# Altium schematic symbol library BRT_Components.SchLib: 270 symbols (part 2 of 3)
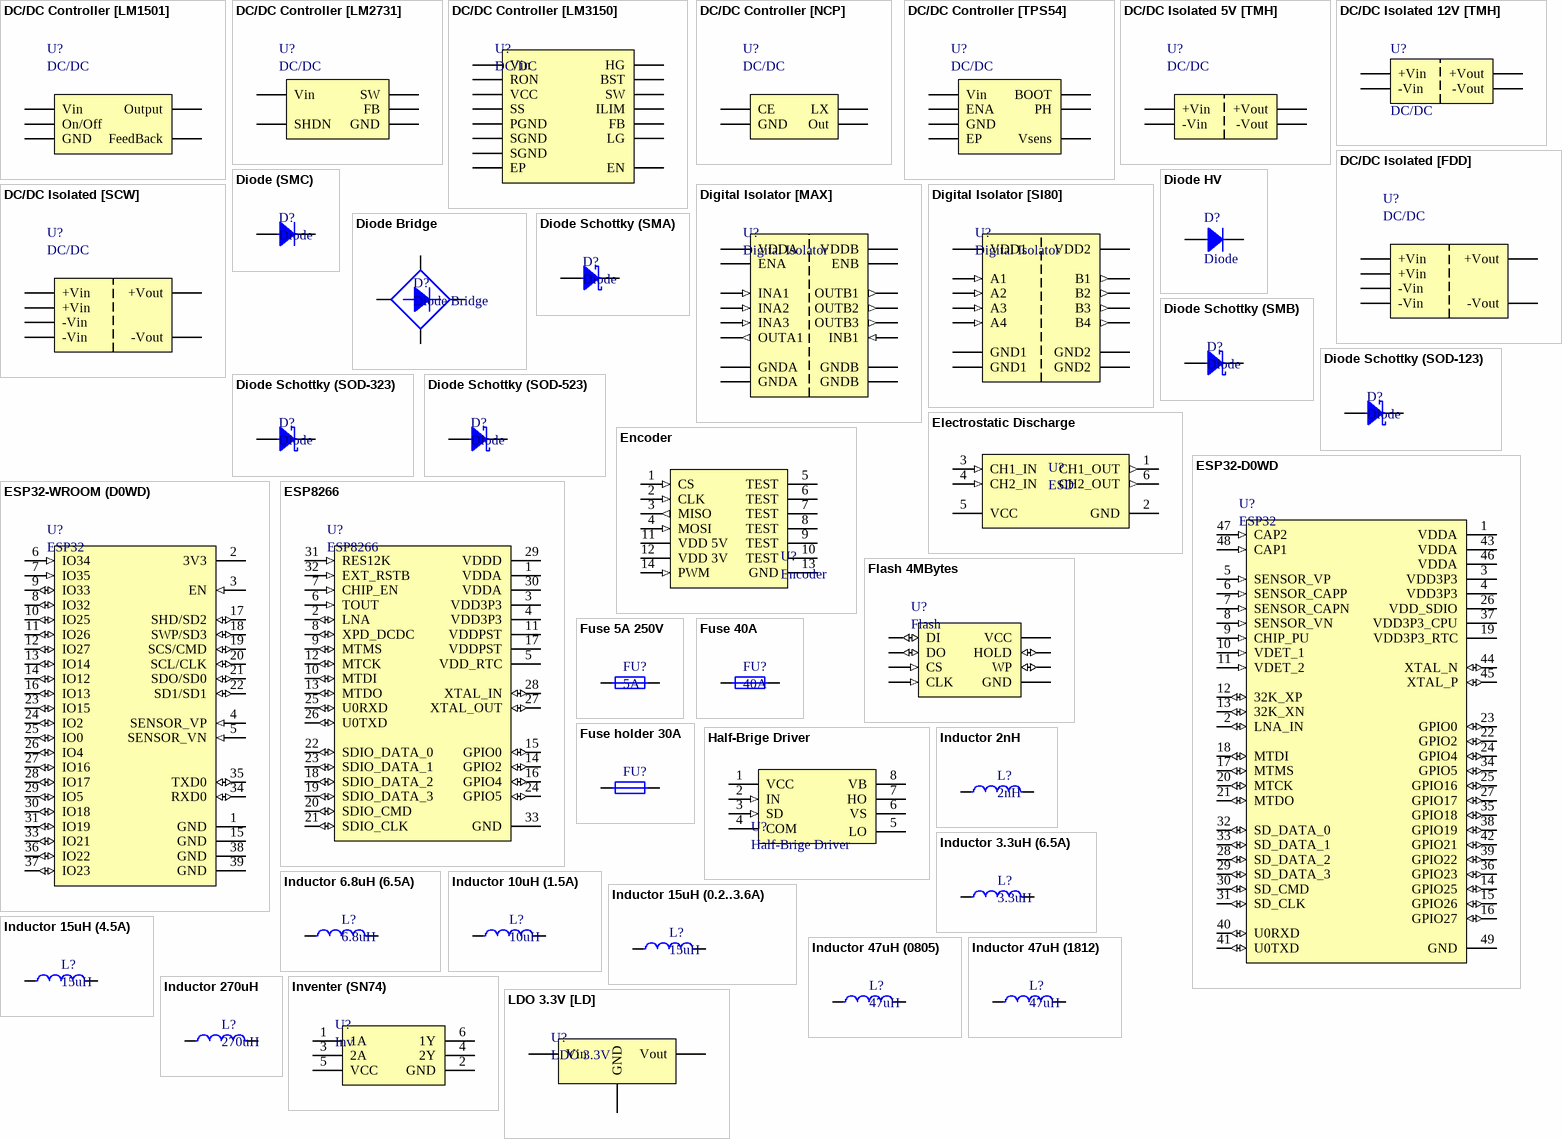
[diagram p7: symbols DC/DC Controller [LM1501] to LDO 3.3V [LD]]

## Diode HV
designator D?, comment Diode
BY12 - Highg voltage diode; ComponentLink1Description: ChipDip; ComponentLink1URL: https://www.chipdip.ru/product/by12; ComponentLink2Description: Datasheet; ComponentLink2URL: https://static.chipdip.ru/lib/508/DOC001508556.pdf
footprint BY12
pins: 1, 2

## Diode Schottky (SMA)
designator D?, comment Diode
Diode Schottky 3A 40V; Part Number: B340A-E3/61T; Manufacturer: Vishay; Type: Diode; ComponentLink1Description: DataSheet; ComponentLink1URL: https://static.chipdip.ru/lib/652/DOC001652710.pdf; ComponentLink2Description: Chip&Dip; ComponentLink2URL: https://www.chipdip.ru/product/b340a-e3-61t-2
footprint SMA
pins: 1, 2

## Diode Schottky (SMB)
designator D?, comment Diode
Diode Schottky 5A 40V; Part Number: SK54; Manufacturer: Diotec Semiconductor; Type: Diode; ComponentLink1Description: DataSheet; ComponentLink1URL: https://static.chipdip.ru/lib/092/DOC001092363.pdf; ComponentLink2Description: Chip&Dip; ComponentLink2URL: https://www.chipdip.ru/product/sk54
footprint SMB
pins: 1, 2

## Diode Schottky (SOD-123)
designator D?, comment Diode
0.5 A, Low Forward Voltage less than 385 mV, 400 mW Power Dissipation Package; Part Number: MBR0520L; Manufacturer: ON Semiconductor; Type: Diode; ComponentLink1Description: DataSheet; ComponentLink1URL: http://www.farnell.com/datasheets/1875336.pdf; ComponentLink2Description: Chip&Dip; ComponentLink2URL: https://www.chipdip.ru/product/mbr0520l
footprint sod-123
pins: 1, 2

## Diode Schottky (SOD-323)
designator D?, comment Diode
Diode Schottky 0.2A 30V; Part Number: BAT54HT1G; Manufacturer: ON Semiconductor; Type: Diode; ComponentLink1Description: DataSheet; ComponentLink1URL: http://www.farnell.com/datasheets/2251626.pdf; ComponentLink2Description: Chip&Dip; ComponentLink2URL: https://www.chipdip.ru/product/bat54ht1g-ons
footprint sod-323
pins: 1, 2

## Diode Schottky (SOD-523)
designator D?, comment Diode
Schottky Barrier Diodes, 200mA to 500mA; Part Number: 1PS79SB30,115; Manufacturer: Nexperia; Type: Diode; ComponentLink1Description: DataSheet; ComponentLink1URL: https://static.chipdip.ru/lib/583/DOC001583065.pdf; ComponentLink2Description: Chip&Dip; ComponentLink2URL: https://www.chipdip.ru/product/1ps79sb30.115
footprint SOD-523
pins: 1, 2

## Electrostatic Discharge
designator U?, comment ESD
2-Channel Ultra-Low Clamp Voltage ESD [TPD2S017DBVR]; Manufacturer: Texas Instruments; Part Number: TPD2S017DBVR; Type: IC; ComponentLink1Description: DataSheet; ComponentLink1URL: https://www.ti.com/lit/ds/symlink/tpd2s017.pdf?ts=1605859658409&ref_url=https%253A%252F%252Fwww.ti.com%252Fproduct%252FTPD2S017%253Futm_source%253Dgoogle%2526utm_medium%253Dcpc%2526utm_campaign%253Dapp-null-null-GPN_EN-cpc-pf-google-eu%2526utm_content%253DTPD2S017%2526ds_k%253DTPD2S017%2526DCM%253Dyes%2526gclid%253DCjwKCAiA7939BRBMEiwA-hX5J1NFHP2TP8cbp9bs_j1u611XDsMKD_GIosLsJ5HnTqvzEnKmAgZ7qBoCjZ0QAvD_BwE%2526gclsrc%253Daw.ds; ComponentLink2Description: Chip&Dip; ComponentLink2URL: https://www.chipdip.ru/product0/8002872230
footprint SOT236
pins: 1 CH1_OUT (out), 2 GND (power), 3 CH1_IN (in), 4 CH2_IN (in), 5 VCC (power), 6 CH2_OUT (out)

## Encoder
designator U?
Magnetic Rotary Encoder; Part Number: AS5048A; Manufacturer: ams; ComponentLink1Description: DataSheet; ComponentLink1URL: https://www.mouser.com/ds/2/588/AS5048_DS000298_3-00-522551.pdf; Type: IC
footprint TSSOP-14
pins: 1 CS (in), 2 CLK (in), 3 MISO (out), 4 MOSI (in), 5 TEST (power), 6 TEST (power), 7 TEST (power), 8 TEST (power), 9 TEST (power), 10 TEST (power), 11 VDD 5V (power), 12 VDD 3V (power), 13 GND (power), 14 PWM (in)

## ESP32-D0WD
designator U?, comment ESP32
ESP32 is a single 2.4 GHz Wi-Fi-and-Bluetooth combo chip designed with the TSMC ultra-low-power 40 nmtechnology. It is designed to achieve the best power and RF performance, showing robustness, versatility andreliability in a wide variety of applications and power scenarios.; Part Number: ESP32-D0WD; Manufacturer: Espressif Systems; ComponentLink1Description: Chip&Dip; ComponentLink1URL: https://www.chipdip.ru/product1/8001784100; ComponentLink2Description: DataSheet; ComponentLink2URL: https://ru.mouser.com/datasheet/2/891/esp32_datasheet_en-1223853.pdf; Type: IC
footprint QFN-48 5x5
pins: 1 VDDA (power) "Analog power supply (2.3 V – 3.6 V)", 2 LNA_IN (io) "RF input and output", 3 VDD3P3 (power) "Analog power supply (2.3 V – 3.6 V)", 4 VDD3P3 (power) "Analog power supply (2.3 V – 3.6 V)", 5 SENSOR_VP (in) "GPIO36, ADC1_CH0,  RTC_GPIO0", 6 SENSOR_CAPP (in) "GPIO37, ADC1_CH1,  RTC_GPIO1", 7 SENSOR_CAPN (in) "GPIO38, ADC1_CH2,  RTC_GPIO2", 8 SENSOR_VN (in) "GPIO39, ADC1_CH3,  RTC_GPIO3", 9 CHIP_PU (in) "High: On; enables the chipLow: Off; the chip powers offNote: Do not leave the CHIP_PU pin floating.", 10 VDET_1 (in) "GPIO34, ADC1_CH6,  RTC_GPIO4", 11 VDET_2 (in) "GPIO35, ADC1_CH7,  RTC_GPIO5", 12 32K_XP (io) "GPIO32, ADC1_CH4,  RTC_GPIO9,  TOUCH9,  32K_XP (32.768 kHz crystal oscillator input)", 13 32K_XN (io) "GPIO33, ADC1_CH5,  RTC_GPIO8,  TOUCH8,  32K_XN (32.768 kHz crystal oscillator output)", 14 GPIO25 (io) "GPIO25, ADC2_CH8,  RTC_GPIO6,  DAC_1,   EMAC_RXD0", 15 GPIO26 (io) "GPIO26, ADC2_CH9,  RTC_GPIO7,  DAC_2,   EMAC_RXD1", 16 GPIO27 (io) "GPIO27, ADC2_CH7,  RTC_GPIO17, TOUCH7,  EMAC_RX_DV", 17 MTMS (io) "GPIO14, ADC2_CH6,  RTC_GPIO16, TOUCH6,  EMAC_TXD2,  HSPICLK,  HS2_CLK,  SD_CLK,  MTMS", 18 MTDI (io) "GPIO12, ADC2_CH5,  RTC_GPIO15, TOUCH5,  EMAC_TXD3,  HSPIQ,    HS2_DATA2, SD_DATA2, MTDI", 19 VDD3P3_RTC (power) "Input power supply for RTC IO (2.3 V – 3.6 V)", 20 MTCK (io) "GPIO13, ADC2_CH4,  RTC_GPIO14, TOUCH4,  EMAC_RX_ER, HSPID,    HS2_DATA3, SD_DATA3, MTCK", 21 MTDO (io) "GPIO15, ADC2_CH3,  RTC_GPIO13, TOUCH3,  EMAC_RXD3,  HSPICS0,  HS2_CMD,  SD_CMD,  MTDO", 22 GPIO2 (io) "GPIO2,  ADC2_CH2,  RTC_GPIO12, TOUCH2,HSPIWP,  HS2_DATA0, SD_DATA0", 23 GPIO0 (io) "GPIO0,  ADC2_CH1,  RTC_GPIO11, TOUCH1,  EMAC_TX_CLK,CLK_OUT1", 24 GPIO4 (io) "GPIO4,  ADC2_CH0,  RTC_GPIO10, TOUCH0,  EMAC_TX_ER, HSPIHD,  HS2_DATA1, SD_DATA1", 25 GPIO16 (io) "GPIO16, HS1_DATA4,  U2RXD,EMAC_CLK_OUT", 26 VDD_SDIO (power) "Output power supply: 1.8 V or the same voltage as VDD3P3_RTC", 27 GPIO17 (io) "GPIO17, HS1_DATA5,  U2TXD,EMAC_CLK_OUT_180", 28 SD_DATA_2 (io) "GPIO9,  HS1_DATA2,  U1RXD,SD_DATA2, SPIHD", 29 SD_DATA_3 (io) "GPIO10, HS1_DATA3,  U1TXD,SD_DATA3, SPIWP", 30 SD_CMD (io) "GPIO11, HS1_CMD,   U1RTS,SD_CMD,  SPICS0", 31 SD_CLK (io) "GPIO6,  HS1_CLK,    U1CTS,SD_CLK,  SPICLK", 32 SD_DATA_0 (io) "GPIO7,  HS1_DATA0,  U2RTS,SD_DATA0, SPIQ", 33 SD_DATA_1 (io) "GPIO8,  HS1_DATA1,  U2CTS,SD_DATA1, SPID", 34 GPIO5 (io) "GPIO5,  HS1_DATA6,  VSPICS0,EMAC_RX_CLK", 35 GPIO18 (io) "GPIO18, HS1_DATA7,  VSPICLK", 36 GPIO23 (io) "GPIO23, HS1_STROBE, VSPID", 37 VDD3P3_CPU (power) "Input power supply for CPU IO (1.8 V – 3.6 V)", 38 GPIO19 (io) "GPIO19, U0CTS,VSPIQ,EMAC_TXD0", 39 GPIO22 (io) "GPIO22, U0RTS,VSPIWP,EMAC_TXD1", 40 U0RXD (io) "GPIO3,  U0RXD,CLK_OUT2", 41 U0TXD (io) "GPIO1,  U0TXD,CLK_OUT3,   EMAC_RXD2", 42 GPIO21 (io) "GPIO21,VSPIHD,EMAC_TX_EN", 43 VDDA (power) "Analog power supply (2.3 V – 3.6 V)", 44 XTAL_N (io) "External crystal output", 45 XTAL_P (io) "External crystal input", 46 VDDA (power) "Analog power supply (2.3 V – 3.6 V)", 47 CAP2 (in) "Connects to a 3 nF capacitor and 20 kΩresistor in parallel to CAP1", 48 CAP1 (in) "Connects to a 10 nF series capacitor to ground", 49 GND (power) "Ground"

## ESP32-WROOM (D0WD)
designator U?, comment ESP32
ESP32-WROOM-32 is a powerful, generic Wi-Fi+BT+BLE MCU module that targets a wide variety of applications,ranging from low-power sensor networks to the most demanding tasks, such as voice encoding, music streamingand MP3 decoding; Part Number: ESP32-WROOM-32U (16MB); Manufacturer: Espressif Systems; ComponentLink1Description: Mouser; ComponentLink1URL: https://ru.mouser.com/ProductDetail/Espressif-Systems/ESP32-WROOM-32U-16MB?qs=sGAEpiMZZMu3sxpa5v1qrsMD9%252BwKyL2mrwTVktUnYUY%3D; ComponentLink2Description: DataSheet; ComponentLink2URL: https://ru.mouser.com/datasheet/2/891/esp32-wroom-32d_esp32-wroom-32u_datasheet_en-1365844.pdf; Type: IC
footprint ESP32-WROOM-32U
pins: 1 GND (power), 2 3V3 (power), 3 EN (in) "Module-enable signal. Active high", 4 SENSOR_VP (in) "GPIO36, ADC1_CH0, RTC_GPIO0", 5 SENSOR_VN (in) "GPIO39, ADC1_CH3, RTC_GPIO3", 6 IO34 (in) "GPIO34, ADC1_CH6, RTC_GPIO4", 7 IO35 (in) "GPIO35, ADC1_CH7, RTC_GPIO5", 8 IO32 (io) "GPIO32, XTAL_32K_P (32.768 kHz crystal oscillator input), ADC1_CH4,TOUCH9, RTC_GPIO9", 9 IO33 (io) "GPIO33, XTAL_32K_N (32.768 kHz crystal oscillator output), ADC1_CH5,TOUCH8, RTC_GPIO8", 10 IO25 (io) "GPIO25, DAC_1, ADC2_CH8, RTC_GPIO6, EMAC_RXD0", 11 IO26 (io) "GPIO26, DAC_2, ADC2_CH9, RTC_GPIO7, EMAC_RXD1", 12 IO27 (io) "GPIO27, ADC2_CH7, TOUCH7, RTC_GPIO17, EMAC_RX_DV", 13 IO14 (io) "GPIO14, ADC2_CH6, TOUCH6, RTC_GPIO16, MTMS, HSPICLK, HS2_CLK,SD_CLK, EMAC_TXD2", 14 IO12 (io) "GPIO12, ADC2_CH5, TOUCH5, RTC_GPIO15, MTDI, HSPIQ, HS2_DATA2,SD_DATA2, EMAC_TXD3", 15 GND (power), 16 IO13 (io) "GPIO13, ADC2_CH4, TOUCH4, RTC_GPIO14, MTCK, HSPID, HS2_DATA3,SD_DATA3, EMAC_RX_ER", 17 SHD/SD2 (io) "GPIO9, SD_DATA2, SPIHD, HS1_DATA2, U1RXD", 18 SWP/SD3 (io) "GPIO10, SD_DATA3, SPIWP, HS1_DATA3, U1TXD", 19 SCS/CMD (io) "GPIO11, SD_CMD, SPICS0, HS1_CMD, U1RTS", 20 SCL/CLK (io) "GPIO6, SD_CLK, SPICLK, HS1_CLK, U1CTS", 21 SDO/SD0 (io) "GPIO7, SD_DATA0, SPIQ, HS1_DATA0, U2RTS", 22 SD1/SD1 (io) "GPIO8, SD_DATA1, SPID, HS1_DATA1, U2CTS", 23 IO15 (io) "GPIO15, ADC2_CH3, TOUCH3, MTDO, HSPICS0, RTC_GPIO13, HS2_CMD,SD_CMD, EMAC_RXD3", 24 IO2 (io) "GPIO2, ADC2_CH2, TOUCH2, RTC_GPIO12, HSPIWP, HS2_DATA0,SD_DATA0", 25 IO0 (io) "GPIO0, ADC2_CH1, TOUCH1, RTC_GPIO11, CLK_OUT1, EMAC_TX_CLK", 26 IO4 (io) "GPIO4, ADC2_CH0, TOUCH0, RTC_GPIO10, HSPIHD, HS2_DATA1,SD_DATA1, EMAC_TX_ER", 27 IO16 (io) "GPIO16, HS1_DATA4, U2RXD, EMAC_CLK_OUT", 28 IO17 (io) "GPIO17, HS1_DATA5, U2TXD, EMAC_CLK_OUT_180", 29 IO5 (io) "GPIO5, VSPICS0, HS1_DATA6, EMAC_RX_CLK", 30 IO18 (io) "GPIO18, VSPICLK, HS1_DATA7", 31 IO19 (io) "GPIO19, VSPIQ, U0CTS, EMAC_TXD0", 33 IO21 (io) "GPIO21, VSPIHD, EMAC_TX_EN", 34 RXD0 (io) "GPIO3, U0RXD, CLK_OUT2", 35 TXD0 (io) "GPIO1, U0TXD, CLK_OUT3, EMAC_RXD2", 36 IO22 (io) "GPIO22, VSPIWP, U0RTS, EMAC_TXD1", 37 IO23 (io) "GPIO23, VSPID, HS1_STROBE", 38 GND (power), 39 GND (power)

## ESP8266
designator U?
ESP8266EX delivers highly integrated Wi-Fi SoC solution to meet users’ continuous demands for efficient power usage, compact design and reliable performance in the Internet of Things industry; Manufacturer: Espressif Systems; ComponentLink1Description: Mouser; ComponentLink1URL: https://eu.mouser.com/ProductDetail/Espressif-Systems/ESP8266EX?qs=sGAEpiMZZMve4%2FbfQkoj%252BGif8WCprhV4ngk1mHM9Xjs%3D; ComponentLink2Description: DataSheet; ComponentLink2URL: https://eu.mouser.com/datasheet/2/891/0a-esp8266ex_datasheet_en-1223899.pdf; Part Number: ESP8266EX; Type: IC
footprint QFN-32
pins: 1 VDDA (power) "Analog Power 2.5 V ~ 3.6 V", 2 LNA (io) "RF antenna interface Chip output impedance = 39 + j6 Ω. It is suggested to retain the π-type matching network to match the antenna", 3 VDD3P3 (power) "Amplifier Power 2.5 V ~ 3.6 V", 4 VDD3P3 (power) "Amplifier Power 2.5 V ~ 3.6 V", 5 VDD_RTC (power) "NC (1.1 V)", 6 TOUT (in) "ADC pin. It can be used to test the power-supply voltage of VDD3P3 (Pin3 and Pin4) and the input power voltage of TOUT (Pin 6", 7 CHIP_EN (in) "Chip Enable High: On, chip works properly Low: Off, small current consumed", 8 XPD_DCDC (io) "Deep-sleep wakeup (need to be connected to EXT_RSTB); GPIO16", 9 MTMS (io) "GPIO 14; HSPI_CLK", 10 MTDI (io) "GPIO 12; HSPI_MISO", 11 VDDPST (power) "Digital/IO Power Supply (1.8 V ~ 3.6 V)", 12 MTCK (io) "GPIO 13; HSPI_MOSI; UART0_CTS", 13 MTDO (io) "GPIO 15; HSPI_CS; UART0_RTS", 14 GPIO2 (io) "UART TX during flash programming; GPIO2", 15 GPIO0 (io) "GPIO0; SPI_CS2", 16 GPIO4 (io), 17 VDDPST (power) "Digital/IO Power Supply (1.8 V ~ 3.6 V)", 18 SDIO_DATA_2 (io) "Connect to SD_D2 (Series R: 20 Ω); SPIHD; HSPIHD; GPIO9", 19 SDIO_DATA_3 (io) "Connect to SD_D3 (Series R: 200 Ω); SPIWP; HSPIWP; GPIO10", 20 SDIO_CMD (io) "Connect to SD_CMD (Series R: 200 Ω); SPI_CS0; GPIO11", 21 SDIO_CLK (io) "Connect to SD_CLK (Series R: 200 Ω); SPI_CLK; GPIO6", 22 SDIO_DATA_0 (io) "Connect to SD_D0 (Series R: 200 Ω); SPI_MISO; GPIO7", 23 SDIO_DATA_1 (io) "Connect to SD_D1 (Series R: 200 Ω); SPI_MOSI; GPIO8", 24 GPIO5 (io), 25 U0RXD (io) "UART Rx during flash programming; GPIO3", 26 U0TXD (io) "UART TX during flash programming; GPIO1; SPI_CS1", 27 XTAL_OUT (io) "Connect to crystal oscillator output, can be used to provide BT clock input", 28 XTAL_IN (io) "Connect to crystal oscillator input", 29 VDDD (power) "Analog Power 2.5 V ~ 3.6 V", 30 VDDA (power) "Analog Power 2.5 V ~ 3.6 V", 31 RES12K (in) "Serial connection with a 12 kΩ resistor and connect to the ground", 32 EXT_RSTB (in) "External reset signal (Low voltage level: active)", 33 GND (power)

## Flash 4MBytes
designator U?, comment Flash
Serial  Flash  memory providesa  storage  solution  for  systems  with  limited space,  pins  and  power.; Part Number: W25Q32BVSSIG; Manufacturer: Winbond Electronics; ComponentLink1Description: DataSheet; ComponentLink1URL: https://static.chipdip.ru/lib/081/DOC001081512.pdf; ComponentLink2Description: Chip&Dip; ComponentLink2URL: https://www.chipdip.ru/product/w25q32bvssig; Type: IC
footprint SOIC-8
pins: 1 CS (in) "Chip Select Input", 2 DO (io) "Data Output", 3 WP (io) "Write Protect Input", 4 GND (power), 5 DI (io) "Data Input", 6 CLK (in) "Serial Clock Input", 7 HOLD (io) "Hold Input", 8 VCC (power)

## Fuse 5A 250V
designator FU?, comment 5А
Part Number: 179020.5; Manufacturer: Siba; Type: Fuse; ComponentLink1Description: Chip&Dip; ComponentLink1URL: https://www.chipdip.ru/product/siba-179020-5
footprint Fuse Glass
pins: 1, 2

## Fuse 40A
designator FU?, comment 40A
Part Number: MF-MSMF200-2; Manufacturer: Bourns; Type: Fuse; ComponentLink1Description: Chip&Dip; ComponentLink1URL: https://www.chipdip.ru/product0/8001783899
footprint 1812 Fuse
pins: 1, 2

## Fuse holder 30A
designator FU?
Automotive fuse holder, 30A; Part number: 3557-2; Manufacturer: Keystone Electronics Corp; Type: Fuse; ComponentLink1Description: Datasheet; ComponentLink1URL: https://datasheet.octopart.com/3557-2-Keystone-datasheet-14434305.pdf; ComponentLink2Description: Mouser; ComponentLink2URL: https://ru.mouser.com/ProductDetail/Keystone-Electronics/3557-2?qs=cxy41lVAGV%2FfbyASjpXK1g%3D%3D
footprint FuseHolder (3557-2) (Automotive fuse holder)
pins: 1, 2

## Half-Brige Driver
designator U?
Driver 600V 0.6A 2-OUT Hi/Lo Side Half Brdg Inv/Non-Inv 8-Pin SOIC Tube; Part Number: IRS2104SPBF; Manufacturer: International Rectifier; ComponentLink1Description: DataSheet; ComponentLink1URL: https://static.chipdip.ru/lib/033/DOC001033366.pdf; ComponentLink2Description: Chip&Dip; ComponentLink2URL: https://www.chipdip.ru/product/irs2104s; Type: IC
footprint SOIC-8
pins: 1 VCC (power), 2 IN (in) "Logic Signal", 3 SD (in) "Shot-Down", 4 COM (power), 5 LO, 6 VS, 7 HO, 8 VB

## Inductor 2nH
designator L?, comment 2nH
0603, 5%; Part Number: LQG18HN8N2J00D; Manufacturer: Murata Manufacturing; Type: Inductor; ComponentLink1Description: DataSheet; ComponentLink1URL: https://static6.arrow.com/aropdfconversion/c1583adeb79d7b8ba7badcc32120e4a48424949a/product.pdf; ComponentLink2Description: Chip&Dip; ComponentLink2URL: https://www.chipdip.ru/product/lqg18hn8n2j
footprint 0603 Resistor
pins: 1, 2

## Inductor 3.3uH (6.5A)
designator L?, comment 3.3uH
3.3uH, 5.4x5.1x2, 6.5A; Part Number: SPM5020T-3R3M-LR; Manufacturer: TDK; Type: Inductor; ComponentLink1Description: DataSheet; ComponentLink1URL: https://static.chipdip.ru/lib/015/DOC004015227.pdf; ComponentLink2Description: Chip&Dip; ComponentLink2URL: https://www.chipdip.ru/product0/9000523845
footprint Inductor 5.4x5.1
pins: 1, 2

## Inductor 6.8uH (6.5A)
designator L?, comment 6.8uH
6.8 uH, 4.2 А, 20%, 5.4х5.1х2mm; Part Number: SPM5020T-6R8M-LR; Manufacturer: TDK; Type: Inductor; ComponentLink1Description: DataSheet; ComponentLink1URL: https://static.chipdip.ru/lib/015/DOC004015227.pdf; ComponentLink2Description: Chip&Dip; ComponentLink2URL: https://www.chipdip.ru/product0/9000523846
footprint Inductor 5.4x5.1
pins: 1, 2

## Inductor 10uH (1.5A)
designator L?, comment 10uH
10uH, D=5.8mm, 1450mA; Part Number: SDR0604-100ML; Manufacturer: Bourns; Type: Inductor; ComponentLink1Description: DataSheet; ComponentLink1URL: http://www.farnell.com/datasheets/1635216.pdf; ComponentLink2Description: Chip&Dip; ComponentLink2URL: https://www.chipdip.ru/product/sdr0604-100ml
footprint SDR
pins: 1, 2

## Inductor 15uH (0.2..3.6A)
designator L?, comment 15uH
15uH, 1.53A, 7X7; Part Number: B82472G6153M000; Manufacturer: Epcos; Type: Inductor; ComponentLink1Description: DataSheet; ComponentLink1URL: https://static.chipdip.ru/lib/972/DOC003972643.pdf; ComponentLink2Description: Chip&Dip; ComponentLink2URL: https://www.chipdip.ru/product/b82472g6153m000-15
footprint Inductor 7x7
pins: 1, 2

## Inductor 15uH (4.5A)
designator L?, comment 15uH
15uH, 12.8x12.8, 4.5A; Part Number: B82477G4153M; Manufacturer: Epcos; Type: Inductor; ComponentLink1Description: DataSheet; ComponentLink1URL: https://static.chipdip.ru/lib/009/DOC001009882.pdf; ComponentLink2Description: Chip&Dip; ComponentLink2URL: https://www.chipdip.ru/product/b82477g4153m
footprint Inductor 12.8 x 12.8 x 8.0
pins: 1, 2

## Inductor 47uH (0805)
designator L?, comment 47uH
20%; Part Number: MLZ2012M470WT000; Manufacturer: TDK; Type: Inductor; ComponentLink1Description: DataSheet; ComponentLink1URL: https://static.chipdip.ru/lib/492/DOC001492193.pdf; ComponentLink2Description: Chip&Dip; ComponentLink2URL: https://www.chipdip.ru/product/mlz2012m470wt000-47
footprint 0805 Resistor
pins: 1, 2

## Inductor 47uH (1812)
designator L?, comment 47uH
Part Number: CM453232-470KL; Manufacturer: Bourns; Type: Inductor; ComponentLink1Description: DataSheet; ComponentLink1URL: http://www.farnell.com/datasheets/2277343.pdf; ComponentLink2Description: Chip&Dip; ComponentLink2URL: https://www.chipdip.ru/product/cm453232-470kl
footprint 1812 Inductor
pins: 1, 2

## Inductor 270uH
designator L?, comment 270uH
270 uH, 1210, 5%; Part Number: NLV32T-271J-EF; Manufacturer: TDK; Type: Inductor; ComponentLink1Description: DataSheet; ComponentLink1URL: https://static.chipdip.ru/lib/492/DOC001492199.pdf; ComponentLink2Description: Chip&Dip; ComponentLink2URL: https://www.chipdip.ru/product/nlv32t-271j-ef-270
footprint 1210 Inductor
pins: 1, 2

## Inventer (SN74)
designator U?, comment Inv
Dual inverter, 1.65-5.5V; Manufacturer: Texas Instruments; Part Number: SN74LVC2G04DBVR; ComponentLink1Description: Chip&Dip; ComponentLink1URL: https://www.chipdip.ru/product/sn74lvc2g04dbvr-2; ComponentLink2Description: DataSheet; ComponentLink2URL: https://static.chipdip.ru/lib/021/DOC001021810.pdf; Type: IC
footprint SOT236 (Footprint not found)
pins: 1 1A, 2 GND, 3 2А, 4 2Y, 5 VCC, 6 1Y

## LDO 3.3V [LD]
designator U?, comment LDO 3.3V
LDO Regulator Pos 3.3V 1.3A 4-Pin(3+Tab) SOT-223 T/R; Part Number: LD1117S33CTR; Manufacturer: STMicroelectronics; ComponentLink1Description: DataSheet; ComponentLink1URL: https://static.chipdip.ru/lib/292/DOC000292513.pdf; ComponentLink2Description: Chip&Dip; ComponentLink2URL: https://www.chipdip.ru/product/ld1117s33ctr-2
footprint SOT-223
pins: 1 GND (power), 2 Vout (power), 3 Vin (power)

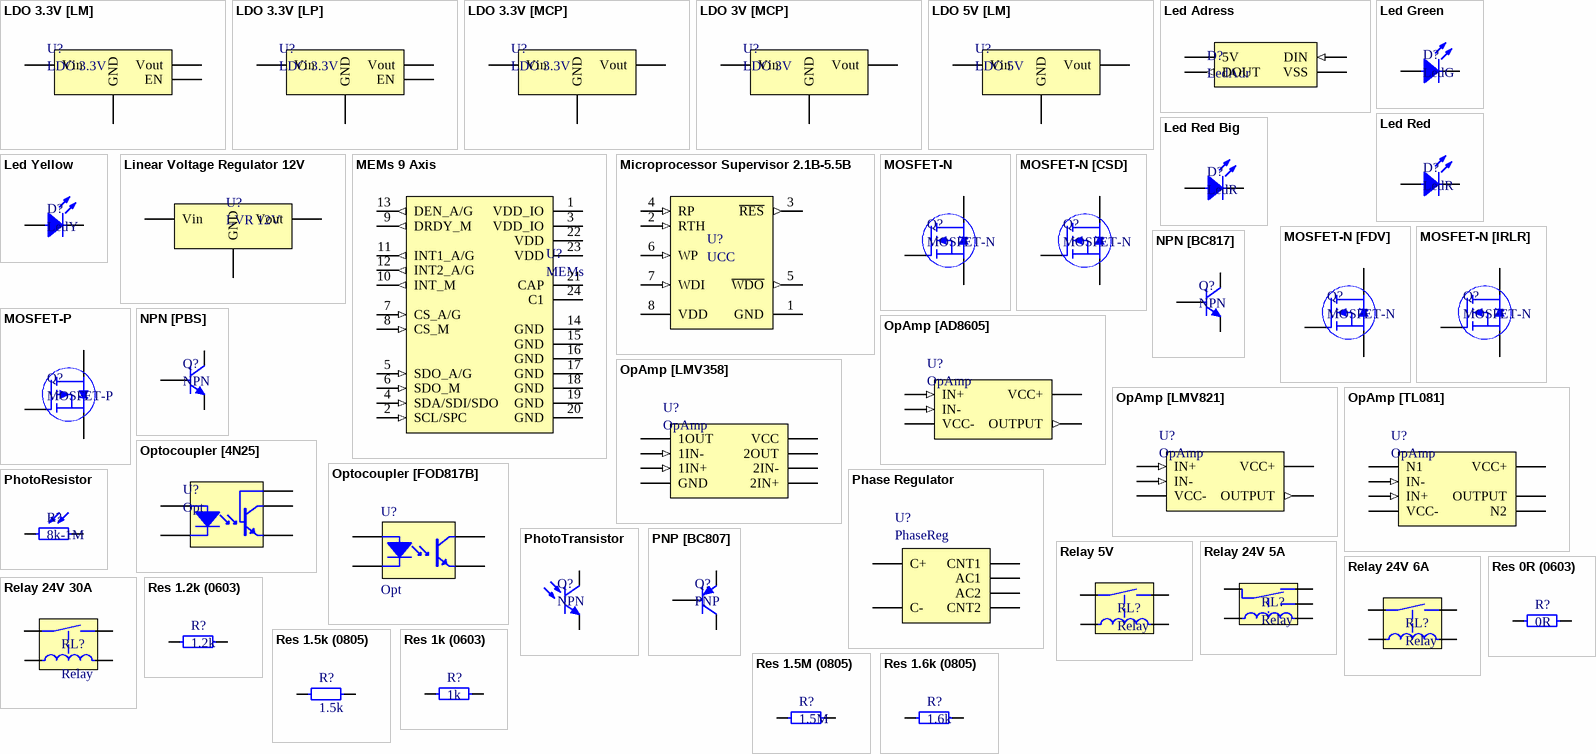
[diagram p4: symbols LDO 3.3V [LM] to Res 1k (0603)]

## LDO 3.3V [LM]
designator U?, comment LDO 3.3V
low-dropout linear regulator. There are devices designed specifically for battery-operated systems. Ground current is very small (50uA-Typ), that significantly extending battery life. Low power consumption and high accuracy is achieved through CMOS and programmable fuse technologies. Output voltage: 1.5V to 6.0V.; Part Number: LM8805SF5-3.3; Manufacturer: TAEJIN TECHNOLOGY; ComponentLink1Description: DataSheet; ComponentLink1URL: https://static.chipdip.ru/lib/138/DOC004138842.pdf; ComponentLink2Description: Chip&Dip; ComponentLink2URL: https://www.chipdip.ru/product/lm8805sf5-3.3
footprint SOT-23-5
pins: 1 Vin (power), 2 GND (power), 3 EN (power), 5 Vout (power)

## LDO 3.3V [LP]
designator U?, comment LDO 3.3V
Low-noise LDO that can supply up  to 250mA output curren. This device is  available with fixed output voltages from 1.2 V to 4.5 V in 25-mV steps; Part Number: LP5907MFX-3.3/NOPB; Manufacturer: Texas Instruments; ComponentLink1Description: DataSheet; ComponentLink1URL: https://static.chipdip.ru/lib/551/DOC001551778.pdf; ComponentLink2Description: Chip&Dip; ComponentLink2URL: https://www.chipdip.ru/product/lp5907mfx-3.3-nopb; ComponentLink3Description: Elitan; ComponentLink3URL: https://www.elitan.ru/price/item9999140
footprint SOT-23-5
pins: 1 Vin (power), 2 GND (power), 3 EN (power), 5 Vout (power)

## LDO 3.3V [MCP]
designator U?, comment LDO 3.3V
A family of CMOS low dropout (LDO)voltage  regulators  that  can  deliver  up  to  250 mA  ofcurrent  while  consuming  only  1.6 μA  of  quiescentcurrent (typical). The input operating range is specifiedfrom 2.3V to 6.0V; Part Number: MCP1700T-3302E/TT; Manufacturer: Microchip; ComponentLink1Description: DataSheet; ComponentLink1URL: https://static.chipdip.ru/lib/276/DOC000276804.pdf; ComponentLink2Description: Chip&Dip; ComponentLink2URL: https://www.chipdip.ru/product/mcp1700t-3302e-tt; ComponentLink3Description: Elitan; ComponentLink3URL: https://www.elitan.ru/price/item595361
footprint SOT-23
pins: 1 GND (power), 2 Vout (power), 3 Vin (power)

## LDO 3V [MCP]
designator U?, comment LDO 3V
MCP1702 Low Dropout Voltage Regulator. The input operating range is specifiedfrom 2.7V to 13.2V; Part Number: MCP1702T-3002E/CB; Manufacturer: Microchip; ComponentLink1Description: DataSheet; ComponentLink1URL: https://static.chipdip.ru/lib/986/DOC003986671.pdf; ComponentLink2Description: Chip&Dip; ComponentLink2URL: https://www.chipdip.ru/product/mcp1702t-3002e-cb-microchip
footprint SOT-23
pins: 1 GND (power), 2 Vout (power), 3 Vin (power)

## LDO 5V [LM]
designator U?, comment LDO 5V
A low dropout Linear Regulator with a dropout of 5V at 800mA of load current; Part Number: LM1117IMPX-5.0/NOPB; Manufacturer: Texas Instruments; ComponentLink1Description: DataSheet; ComponentLink1URL: https://static.chipdip.ru/lib/276/DOC000276680.pdf; ComponentLink2Description: Chip&Dip; ComponentLink2URL: https://www.chipdip.ru/product/lm1117impx-5.0-nopb
footprint SOT-223
pins: 1 GND (power), 2 Vout (power), 3 Vin (power)

## Led Adress
designator D?, comment LedAdr
Manufacturer: Shenzhen Shining Opto-Electronic; Part Number: WS2812B; Type: Diode; ComponentLink1Description: DataSheet; ComponentLink1URL: https://static.chipdip.ru/lib/554/DOC001554925.pdf; ComponentLink2Description: Chip&Dip; ComponentLink2URL: https://www.chipdip.ru/product/ws2812b
footprint WS2812B
pins: 1 5V (power), 2 DOUT (out), 3 VSS (power), 4 DIN (in)

## Led Green
designator D?, comment LedG
Led Green SMD 1608, 120°, 525nM; Part Number: TO-1608BC-PG; Manufacturer: Taiwan Oasis Technology; Type: Diode; ComponentLink1Description: Chip&Dip; ComponentLink1URL: https://www.chipdip.ru/product/to-1608bc-pg
footprint 0805 LED
pins: 1, 2

## Led Red
designator D?, comment LedR
SMD 1608, 112mcd, 120°, 630nM (Ultra Bright Red); Part Number: TO-1608BC-MRE; Manufacturer: Taiwan Oasis Technology; Type: Diode; ComponentLink1Description: Chip&Dip; ComponentLink1URL: https://www.chipdip.ru/product/to-1608bc-mre
footprint 0805 LED
pins: 1, 2

## Led Red Big
designator D?, comment LedR
Led Red, SMD 3228, 120°, 630nM (Ultra Bright Red); Part Number: TO-3228BC-MRG; Manufacturer: Taiwan Oasis Technology; Type: Diode; ComponentLink1Description: Chip&Dip; ComponentLink1URL: https://www.chipdip.ru/product/to-3228bc-mrg
footprint LED
pins: 1, 2

## Led Yellow
designator D?, comment LedY
SMD 1608, 247mcd, 120°, 592nM (High Bright Yellow); Part Number: TO-1608BC-MYF; Manufacturer: Taiwan Oasis Technology; Type: Diode; ComponentLink1Description: Chip&Dip; ComponentLink1URL: https://www.chipdip.ru/product/to-1608bc-myf
footprint 0805 LED
pins: 1, 2

## Linear Voltage Regulator 12V
designator U?, comment LVR 12V
These regulators can provide local on-card regulation, eliminating the distribution problems associated with single point regulation.; Part Number: L7812CD2T-TR; Manufacturer: STMicroelectronics; ComponentLink1Description: Chip&Dip; ComponentLink1URL: https://www.chipdip.ru/product/l7812cd2t-tr; ComponentLink2Description: DataSheet; ComponentLink2URL: https://static.chipdip.ru/lib/804/DOC000804929.pdf
footprint D2-PAK (TO-262)
pins: 1 Vin (power), 2 GND (power), 3 Vout (power)

## MEMs 9 Axis
designator U?, comment MEMs
System-in-package featuring a 3D digital linear acceleration sensor, a 3D digital angular rate sensor, and a 3D digital magnetic sensor; Manufacturer: STMicroelectronics; Part Number: LSM9DS1TR; ComponentLink1Description: DataSheet; ComponentLink1URL: https://static.chipdip.ru/lib/427/DOC004427868.pdf; ComponentLink2Description: Chip&Dip; ComponentLink2URL: https://www.chipdip.ru/product/lsm9ds1tr; Type: IC
footprint LGA 3.5x3x1 mm 24-lead
pins: 1 VDD_IO (power) "Power supply for I/O pins", 2 SCL/SPC (in) "I2C serial clock (SCL) / SPI serial port clock (SPC)", 3 VDD_IO (power) "Power supply for I/O pins", 4 SDA/SDI/SDO (in) "I2C serial data (SDA); SPI serial data input (SDI); 3-wire interface serial data output (SDO)", 5 SDO_A/G (in) "SPI serial data output (SDO) for the accelerometer and gyroscopeI2C least significant bit of the device address (SA0) for the accelerometer and gyroscope", 6 SDO_M (in) "SPI serial data output (SDO) for the magnetometerI2C least significant bit of the device address (SA0) for the magnetometer", 7 CS_A/G (in) "SPI enable I2C/SPI mode selection for the accelerometer and gyroscope (1: SPI idle mode / I2C communication enabled; 0: SPI communication mode / I2C disabled)", 8 CS_M (in) "SPI enable I2C/SPI mode selection for the magnetometer (1: SPI idle mode / I2C communication enabled; 0: SPI communication mode / I2C disabled)", 9 DRDY_M (out) "Magnetic sensor data ready", 10 INT_M (out) "Magnetic sensor interrupt", 11 INT1_A/G (out) "Accelerometer and gyroscope interrupt 1", 12 INT2_A/G (out) "Accelerometer and gyroscope interrupt 2", 13 DEN_A/G (out) "Accelerometer and gyroscope data enable", 14 GND (power), 15 GND (power), 16 GND (power), 17 GND (power), 18 GND (power), 19 GND (power), 20 GND (power), 21 CAP (oc) "Connected to GND with ceramic capacitor", 22 VDD (power) "Power supply", 23 VDD (power) "Power supply", 24 C1 (oc) "Capacitor connection (C1 = 100 nF)"

## Microprocessor Supervisor 2.1В-5.5В
designator U?, comment UCC
UCC2946PW; Manufacturer: Texas Instruments; ComponentLink1Description: Chip&Dip; ComponentLink1URL: https://www.chipdip.ru/product/ucc2946pw; ComponentLink2Description: DataSheet; ComponentLink2URL: https://www.ti.com/lit/ds/slus247f/slus247f.pdf?ts=1602462267468&ref_url=https%253A%252F%252Fwww.google.com%252F; Part Number: UCC2946PW; Type: IC
footprint TSSOP-8
pins: 1 GND (power), 2 RTH (in), 3 ~{RES} (out), 4 RP (in), 5 ~{WDO} (out), 6 WP (in), 7 WDI (in), 8 VDD (power)

## MOSFET-N
designator Q?
Drain-Source max voltage: 50 Vdc; gate-sourse max voltage: +-20 Vdc. Gate-Source threshhold: 1.5 Vdc; Part Number: BSS138LT1G; Manufacturer: ON Semiconductor; Type: Transistor; ComponentLink1Description: DataSheet; ComponentLink1URL: http://www.farnell.com/datasheets/2353875.pdf; ComponentLink2Description: Chip&Dip; ComponentLink2URL: https://www.chipdip.ru/product/bss138-onsemi
footprint SOT-23
pins: 1 Gate, 2 Drain, 3 Source

## MOSFET-N [CSD]
designator Q?, comment MOSFET-N
NexFET™ N-channel Power MOSFET designed to minimize losses in power conversion applications; Part Number: CSD19534Q5A; Manufacturer: Texas Instruments; Type: Transistor; ComponentLink1Description: DataSheet; ComponentLink1URL: http://www.ti.com/lit/ds/symlink/csd19534q5a.pdf; ComponentLink2Description: Chip&Dip; ComponentLink2URL: https://www.chipdip.ru/product/csd19534q5at
footprint VSON
pins: 1 Gate, 2 Drain, 3 Source

## MOSFET-N [FDV]
designator Q?, comment MOSFET-N
These N-Channel enhancement mode field effect transistors areproduced  using  Fairchild's  proprietary,  high  cell  density,  DMOStechnology.; Part Number: FDV303N; Manufacturer: Fairchild Semiconductor; Type: Transistor; ComponentLink1Description: DataSheet; ComponentLink1URL: https://static.chipdip.ru/lib/009/DOC001009115.pdf; ComponentLink2Description: Chip&Dip; ComponentLink2URL: https://www.chipdip.ru/product/fdv303n
footprint SOT-23
pins: 1 Gate, 2 Source, 3 Drain

## MOSFET-N [IRLR]
designator Q?, comment MOSFET-N
Trans MOSFET N-CH Si 55V 89A 3-Pin(2+Tab) DPAK Tube; Part Number: IRLR3705ZTRPBF; Manufacturer: International Rectifier; Type: Transistor; ComponentLink1Description: DataSheet; ComponentLink1URL: https://static.chipdip.ru/lib/292/DOC000292789.pdf; ComponentLink2Description: Chip&Dip; ComponentLink2URL: https://www.chipdip.ru/product/irlr3705zpbf
footprint D-Pak (TO-252AA)
pins: 1 Gate, 2 Drain, 3 Source

## MOSFET-P
designator Q?
12VDS TrenchFET® P-channel enhancement-mode Power MOSFET suitable for load switch and battery switch applications; Part Number: SI2333DDS-T1-GE3; Manufacturer: Vishay; Type: Transistor; ComponentLink1Description: Chip&Dip; ComponentLink1URL: https://www.chipdip.ru/product/si2333dds-t1-ge3; ComponentLink2Description: DataSheet; ComponentLink2URL: http://www.farnell.com/datasheets/2188938.pdf
footprint SOT-23
pins: 1 Gate, 2 Source, 3 Drain

## NPN [BC817]
designator Q?, comment NPN
NPN general-purpose transistors; Part Number: BC817-40,215; Manufacturer: Nexperia; Type: Transistor; ComponentLink1Description: DataSheet; ComponentLink1URL: https://static.chipdip.ru/lib/156/DOC000156781.pdf; ComponentLink2Description: Chip&Dip; ComponentLink2URL: https://www.chipdip.ru/product/bc817-40
footprint SOT-23
pins: 1, 2, 3

## NPN [PBS]
designator Q?, comment NPN
NPN low VCEsat transistor in a SOT223 plastic package; Part Number: PBSS4540Z,115; Manufacturer: Nexperia; Type: Transistor; ComponentLink1Description: DataSheet; ComponentLink1URL: https://static.chipdip.ru/lib/583/DOC001583057.pdf; ComponentLink2Description: Chip&Dip; ComponentLink2URL: https://www.chipdip.ru/product/pbss4540z.115
footprint SOT-223
pins: 1, 2, 3

## OpAmp [AD8605]
designator U?, comment OpAmp
Rail-to-rail input and output, single-supply amplifier; Part Number: AD8605ARTZ-REEL7; Manufacturer: Analog Devices; ComponentLink1Description: DataSheet; ComponentLink1URL: https://static.chipdip.ru/lib/310/DOC000310082.pdf; ComponentLink2Description: Chip&Dip; ComponentLink2URL: https://www.chipdip.ru/product/ad8605artz; Type: IC
footprint SOT-23-5
pins: 1 OUTPUT (out), 2 VCC- (power), 3 IN+ (in) "Offset Null", 4 IN- (in), 5 VCC+ (power)

## OpAmp [LMV358]
designator U?, comment OpAmp
Low Voltage Operational Amplifiers; Part Number: LMV358IDR; Manufacturer: Texas Instruments; ComponentLink1Description: DataSheet; ComponentLink1URL: https://static.chipdip.ru/lib/321/DOC000321492.pdf; ComponentLink2Description: Chip&Dip; ComponentLink2URL: https://www.chipdip.ru/product/lmv358idr-pbf; Type: IC
footprint SOIC-8
pins: 1 1OUT (oc) "Offset Null", 2 1IN- (in), 3 1IN+ (in), 4 GND (power), 5 2IN+ (oc), 6 2IN- (oc), 7 2OUT (oc), 8 VCC (power)

## OpAmp [LMV821]
designator U?, comment OpAmp
A single low power precision Operational Amplifier intended for use in a wide range of applications; Part Number: LMV821M5/NOPB; Manufacturer: Texas Instruments; ComponentLink1Description: DataSheet; ComponentLink1URL: https://static.chipdip.ru/lib/235/DOC000235297.pdf; ComponentLink2Description: Chip&Dip; ComponentLink2URL: https://www.chipdip.ru/product/lmv821m5; Type: IC
footprint SOT-23-5
pins: 1 IN+ (in) "Offset Null", 2 VCC- (power), 3 IN- (in), 4 OUTPUT (out), 5 VCC+ (power)

## OpAmp [TL081]
designator U?, comment OpAmp
General Purpose J-FET Single Operational Amplifier; Part Number: TL081CDT; Manufacturer: STMicroelectronics; ComponentLink1Description: DataSheet; ComponentLink1URL: https://static.chipdip.ru/lib/205/DOC000205098.pdf; ComponentLink2Description: Chip&Dip; ComponentLink2URL: https://www.chipdip.ru/product/tl081cd; Type: IC
footprint SOIC-8
pins: 1 N1 (oc) "Offset Null", 2 IN- (in), 3 IN+ (in), 4 VCC- (power), 5 N2 (oc), 6 OUTPUT (oc), 7 VCC+ (power)

## Optocoupler [4N25]
designator U?, comment Opt
Part Number: 4N25; Manufacturer: Vishay; ComponentLink1Description: DataSheet; ComponentLink1URL: https://static.chipdip.ru/lib/028/DOC001028582.pdf; ComponentLink2Description: Chip&Dip; ComponentLink2URL: https://www.chipdip.ru/product/4n25-vishay; Type: IC
footprint DIP6
pins: 1 A, 2 C, 4 E, 5 C, 6 B

## Optocoupler [FOD817B]
designator U?, comment Opt
Phototransistor Optocoupler, 4 us Rise, 3 us Fall, 5000 Vrms, -55 to 110 degC, 4-Pin MDIP, RoHS, Tape and Reel; Manufacturer: ON Semiconductor; Part Nomber: FOD817B; ComponentLink1Description: Chip&Dip; ComponentLink1URL: https://www.chipdip.ru/product/fod817b; ComponentLink2Description: DataSheet; ComponentLink2URL: https://static.chipdip.ru/lib/297/DOC000297284.pdf
footprint FAIR-MDIP-4_V (SMD, 4-Leads, Body 6.5x4.6mm, Pitch 2.54mm)
pins: 1 ANODE, 2 CATHODE, 3 EMITTER, 4 COLLECTOR

## Phase Regulator
designator U?, comment PhaseReg
Manufacturer: Russia; Part Number: KR1182PM1; ComponentLink1Description: Chip&Dip; ComponentLink1URL: https://www.chipdip.ru/product/k1182pm1r; ComponentLink2Description: DataSheet; ComponentLink2URL: https://static.chipdip.ru/lib/143/DOC000143428.pdf; Type: IC
footprint DIP16
pins: 3 C+ "Input Supply Voltage", 6 C-, 9 CNT2, 10, 11 AC2 (power), 14, 15 AC1 (power), 16 CNT1

## PhotoResistor
designator R?, comment 8k-1M
[GL5528]; Part Number: GL5528; Manufacturer: China; Type: Resistor; ComponentLink1Description: DataSheet; ComponentLink1URL: https://pi.gate.ac.uk/pages/airpi-files/PD0001.pdf
footprint PhotoResistor
pins: 1, 2

## PhotoTransistor
designator Q?, comment NPN
Part Number: L-7113P3C; Manufacturer: Kingbright; Type: Transistor; ComponentLink1Description: DataSheet; ComponentLink1URL: https://static.chipdip.ru/lib/195/DOC000195179.pdf; ComponentLink2Description: Chip&Dip; ComponentLink2URL: https://www.chipdip.ru/product/l-53p3c
footprint PhotoTransistor
pins: 1, 2

## PNP [BC807]
designator Q?, comment PNP
PNP general-purpose transistors; Part Number: BC807,215; Manufacturer: Nexperia; Type: Transistor; ComponentLink1Description: DataSheet; ComponentLink1URL: https://static.chipdip.ru/lib/078/DOC001078227.pdf; ComponentLink2Description: Chip&Dip; ComponentLink2URL: https://www.chipdip.ru/product/bc807.215
footprint SOT-23
pins: 1, 2, 3

## Relay 5V
designator RL?, comment Relay
High ratings: 12A 125VAC, 10A 277VAC/30VDC, TV-5, 1/4HP 125/250VAC; Manufacturer: Song Chuan Precision; Part Number: 834-1A-B-C 05VDC; ComponentLink1Description: Chip&Dip; ComponentLink1URL: https://www.chipdip.ru/product/834-1a-b-c-05vdc; ComponentLink2Description: DataSheet; ComponentLink2URL: https://static.chipdip.ru/lib/156/DOC000156754.pdf; Type: Relay
footprint Relay 1 Form A
pins: 1, 2, 3, 4

## Relay 24V 5A
designator RL?, comment Relay
Coil voltage: 24V VDC; 5A max; Part number: 1-1393219-0; Manufacturer: TE Connectivity; Type: Relay; ComponentLink1Description: Chip&Dip; ComponentLink1URL: https://www.chipdip.ru/product/tyco-1-1393219-0; ComponentLink2Description: Datasheet; ComponentLink2URL: https://static.chipdip.ru/lib/583/DOC000583317.pdf
footprint Relay(PE014024)
pins: 1, 2, 3, 4, 5

## Relay 24V 6A
designator RL?, comment Relay
Coil voltage: 24V; 6A max; Manufacturer: TE Connectivity; Part Number: RE030024; Type: Relay; ComponentLink1Description: Chip&Dip; ComponentLink1URL: https://www.chipdip.ru/product/tyco-re030024-1393217-8; ComponentLink2Description: Datasheet; ComponentLink2URL: https://static.chipdip.ru/lib/975/DOC000975764.pdf
footprint Relay(RE030024)
pins: 1, 2, 3, 4

## Relay 24V 30A
designator RL?, comment Relay
Coil voltage: 24V; 30A max; Manufacturer: TE Connectivity; Part number: T9GS1L14-24; Type: Relay; ComponentLink1Description: Chip&Dip; ComponentLink1URL: https://www.chipdip.ru/product/1558666-7-t9gs1l14-24; ComponentLink2Description: Datasheet; ComponentLink2URL: https://static.chipdip.ru/lib/009/DOC003009180.pdf
footprint Relay(1558666) (TE relay footprint)
pins: 1, 2, 3, 4

## Res 0R (0603)
designator R?, comment 0R
0.1W 0603 0R, 5%; Part Number: RC0603JR-070RL; Manufacturer: Taiwan; Type: Resistor; ComponentLink1Description: Chip&Dip; ComponentLink1URL: https://www.chipdip.ru/product0/9000070541
footprint 0603 Resistor
pins: 1, 2

## Res 1.2k (0603)
designator R?, comment 1.2k
0.1W 0603 1.2k, 1%; Part Number: RC0603FR-071K2L; Manufacturer: Taiwan; Type: Resistor; ComponentLink1Description: Chip&Dip; ComponentLink1URL: https://www.chipdip.ru/product0/9000079678
footprint 0603 Resistor
pins: 1, 2

## Res 1.5k (0805)
designator R?, comment 1.5k
0.125W 0805 1.5k, 1%; Part Number: RC0805FR-071K5L; Manufacturer: Taiwan; Type: Resistor; ComponentLink1Description: Chip&Dip; ComponentLink1URL: https://www.chipdip.ru/product0/9000079490
footprint 0805 Resistor
pins: 1, 2

## Res 1.5M (0805)
designator R?, comment 1.5M
0.125W 0805 1.5 R, 5%; Part Number: RC0805JR-071M5L; Manufacturer: Taiwan; ComponentLink2Description: Chip&Dip; ComponentLink2URL: https://www.chipdip.ru/product0/780602435; Type: Resistor
footprint 0805 Resistor
pins: 1, 2

## Res 1.6k (0805)
designator R?, comment 1.6k
0.125W 0805 1.6k, 1%; Part Number: RC0805FR-071K6L; Manufacturer: Taiwan; Type: Resistor; ComponentLink1Description: Chip&Dip; ComponentLink1URL: https://www.chipdip.ru/product0/9000079491
footprint 0805 Resistor
pins: 1, 2

## Res 1k (0603)
designator R?, comment 1k
0.1W 0603 1k, 1%; Part Number: RC0603FR-071KL; Manufacturer: Taiwan; Type: Resistor; ComponentLink1Description: Chip&Dip; ComponentLink1URL: https://www.chipdip.ru/product0/9000079676
footprint 0603 Resistor
pins: 1, 2

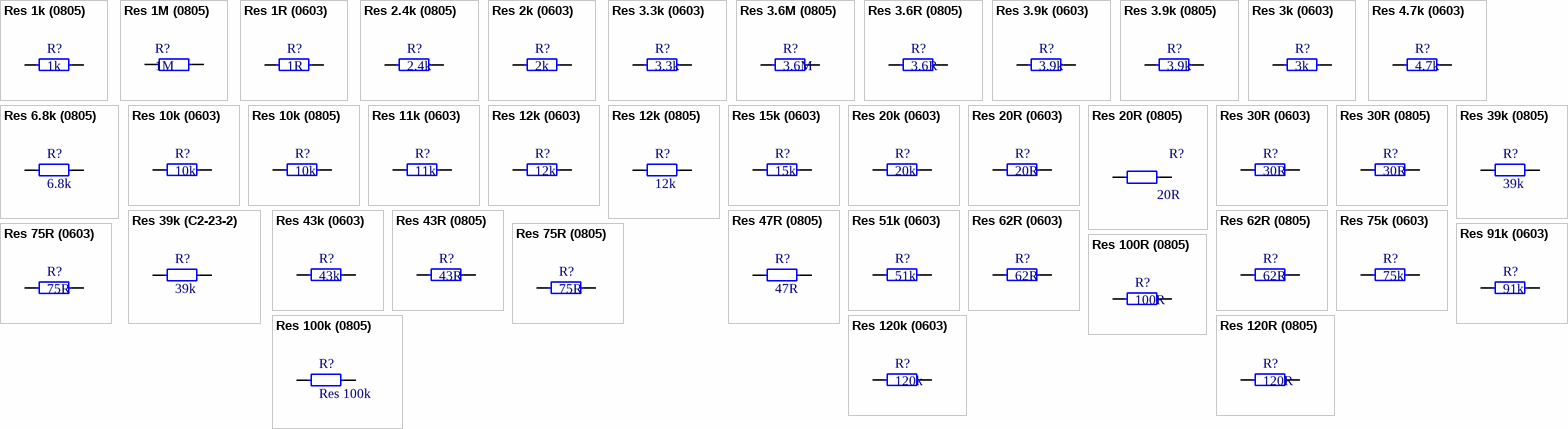
[diagram p5: symbols Res 1k (0805) to Res 120R (0805)]

## Res 1k (0805)
designator R?, comment 1k
0.125W 0805 1k, 1%; Part Number: RC0805FR-071KL; Manufacturer: Taiwan; Type: Resistor; ComponentLink1Description: Chip&Dip; ComponentLink1URL: https://www.chipdip.ru/product0/9000079486
footprint 0805 Resistor
pins: 1, 2

## Res 1M (0805)
designator R?, comment 1M
0.125W 0805 1 R, 5%; Part Number: RC0805JR-071ML; Manufacturer: Taiwan; ComponentLink2Description: Chip&Dip; ComponentLink2URL: https://www.chipdip.ru/product0/830469679; Type: Resistor
footprint 0805 Resistor
pins: 1, 2

## Res 1R (0603)
designator R?, comment 1R
0.1W 0603 1R, 1%; Part Number: RC0603FR-071RL; Manufacturer: Taiwan; Type: Resistor; ComponentLink1Description: Chip&Dip; ComponentLink1URL: https://www.chipdip.ru/product0/9000079509
footprint 0603 Resistor
pins: 1, 2

## Res 2.4k (0805)
designator R?, comment 2.4k
0.125W 0805 2.4k, 1%; Part Number: RC0805FR-072K4L; Manufacturer: Taiwan; Type: Resistor; ComponentLink1Description: Chip&Dip; ComponentLink1URL: https://www.chipdip.ru/product0/9000079495
footprint 0805 Resistor
pins: 1, 2

## Res 2k (0603)
designator R?, comment 2k
0.1W 0603 2k, 1%; Part Number: RC0603FR-072KL; Manufacturer: Taiwan; Type: Resistor; ComponentLink1Description: Chip&Dip; ComponentLink1URL: https://www.chipdip.ru/product0/9000079719
footprint 0603 Resistor
pins: 1, 2

## Res 3.3k (0603)
designator R?, comment 3.3k
0.1W 0603 3.3k, 1%; Part Number: RC0603FR-073K3L; Manufacturer: Taiwan; Type: Resistor; ComponentLink1Description: Chip&Dip; ComponentLink1URL: https://www.chipdip.ru/product0/9000079724
footprint 0603 Resistor
pins: 1, 2

## Res 3.6M (0805)
designator R?, comment 3.6M
0.125W 0805 3.6M, 1%; Part Number: RC0805FR-073M6L; Manufacturer: Taiwan; Type: Resistor; ComponentLink1Description: Chip&Dip; ComponentLink1URL: https://www.chipdip.ru/product0/9000079591
footprint 0805 Resistor
pins: 1, 2

## Res 3.6R (0805)
designator R?, comment 3.6R
0.125W 0805 3.6R, 1%; Part Number: RC0805FR-073R6L; Manufacturer: Taiwan; Type: Resistor; ComponentLink2Description: Chip&Dip; ComponentLink2URL: https://www.chipdip.ru/product0/9000079925
footprint 0603 Resistor
pins: 1, 2

## Res 3.9k (0603)
designator R?, comment 3.9k
0.1W 0603 3.9k, 1%; Part Number: RC0603FR-073K9L; Manufacturer: Taiwan; Type: Resistor; ComponentLink1Description: Chip&Dip; ComponentLink1URL: https://www.chipdip.ru/product0/9000079726
footprint 0603 Resistor
pins: 1, 2

## Res 3.9k (0805)
designator R?, comment 3.9k
0.125W 0805 3.9k, 1%; Part Number: RC0805FR-073K9L; Manufacturer: Taiwan; Type: Resistor; ComponentLink1Description: Chip&Dip; ComponentLink1URL: https://www.chipdip.ru/product0/9000079500
footprint 0805 Resistor
pins: 1, 2

## Res 3k (0603)
designator R?, comment 3k
0.1W 0603 3k, 1%; Part Number: RC0603FR-073KL; Manufacturer: Taiwan; Type: Resistor; ComponentLink1Description: Chip&Dip; ComponentLink1URL: https://www.chipdip.ru/product0/9000079723
footprint 0603 Resistor
pins: 1, 2

## Res 4.7k (0603)
designator R?, comment 4.7k
0.1W 0603 4.7k, 1%; Part Number: RC0603FR-074K7L; Manufacturer: Taiwan; Type: Resistor; ComponentLink1Description: Chip&Dip; ComponentLink1URL: https://www.chipdip.ru/product0/9000079728
footprint 0603 Resistor
pins: 1, 2

## Res 6.8k (0805)
designator R?, comment 6.8k
0.125W 0805 6.8k, 1%; Part Number: RC0805FR-076K8L; Manufacturer: Taiwan; Type: Resistor; ComponentLink1Description: Chip&Dip; ComponentLink1URL: https://www.chipdip.ru/product0/9000079506
footprint 0805 Resistor
pins: 1, 2

## Res 10k (0603)
designator R?, comment 10k
0.1W 0603 10k, 1%; Part Number: RC0603FR-0710KL; Manufacturer: Taiwan; Type: Resistor; ComponentLink1Description: Chip&Dip; ComponentLink1URL: https://www.chipdip.ru/product0/9000079736
footprint 0603 Resistor
pins: 1, 2

## Res 10k (0805)
designator R?, comment 10k
0.125W 0805 10k, 1%; Part Number: RC0805FR-0710KL; Manufacturer: Taiwan; Type: Resistor; ComponentLink1Description: Chip&Dip; ComponentLink1URL: https://www.chipdip.ru/product0/9000079514
footprint 0805 Resistor
pins: 1, 2

## Res 11k (0603)
designator R?, comment 11k
0.1W 0603 11k, 1%; Part Number: RC0603FR-0711KL; Manufacturer: Taiwan; Type: Resistor; ComponentLink1Description: Chip&Dip; ComponentLink1URL: https://www.chipdip.ru/product0/9000079737
footprint 0603 Resistor
pins: 1, 2

## Res 12k (0603)
designator R?, comment 12k
0.1W 0603 12k, 1%; Part Number: RC0603FR-0712KL; Manufacturer: Taiwan; Type: Resistor; ComponentLink1Description: Chip&Dip; ComponentLink1URL: https://www.chipdip.ru/product0/9000079738
footprint 0603 Resistor
pins: 1, 2

## Res 12k (0805)
designator R?, comment 12k
0.125W 0805 12k, 1%; Part Number: RC0805FR-071K5L; Manufacturer: Taiwan; Type: Resistor; ComponentLink1Description: Chip&Dip; ComponentLink1URL: https://www.chipdip.ru/product/b82472g6153m000-15
footprint 0805 Resistor
pins: 1, 2

## Res 15k (0603)
designator R?, comment 15k
0.1W 0603 15k, 1%; Part Number: RC0603FR-0715KL; Manufacturer: Taiwan; Type: Resistor; ComponentLink1Description: Chip&Dip; ComponentLink1URL: https://www.chipdip.ru/product0/9000079740
footprint 0603 Resistor
pins: 1, 2

## Res 20k (0603)
designator R?, comment 20k
0.1W 0603 10k, 1%; Part Number: RC0603FR-0720KL; Manufacturer: Taiwan; Type: Resistor; ComponentLink1Description: Chip&Dip; ComponentLink1URL: https://www.chipdip.ru/product0/9000079743
footprint 0603 Resistor
pins: 1, 2

## Res 20R (0603)
designator R?, comment 20R
0.1W 0603 20R, 5%; Part Number: RC0603JR-0720RL; Manufacturer: Taiwan; Type: Resistor; ComponentLink1Description: Chip&Dip; ComponentLink1URL: https://www.chipdip.ru/product0/9000215377
footprint 0603 Resistor
pins: 1, 2

## Res 20R (0805)
designator R?, comment 20R
0.5W 0805 20R, 1%; Part Numder: CRCW080520R0FKEAHP; Manufacturer: Vishay; Type: Resistor; ComponentLink1Description: DataSheet; ComponentLink1URL: http://www.farnell.com/datasheets/2618455.pdf; ComponentLink2Description: Chip&Dip; ComponentLink2URL: chipdip.ru/product/crcw080520r0fkeahp-1
footprint 0805 Resistor
pins: 1, 2

## Res 30R (0603)
designator R?, comment 30R
0.1W 0603 30R, 1%; Part Number: RC0603FR-0730RL; Manufacturer: Taiwan; Type: Resistor; ComponentLink1Description: Chip&Dip; ComponentLink1URL: https://www.chipdip.ru/product0/9000079603
footprint 0603 Resistor
pins: 1, 2

## Res 30R (0805)
designator R?, comment 30R
0.125W 0805 30R, 1%; Part Number: RC0805FR-0730RL; Manufacturer: Taiwan; Type: Resistor; ComponentLink1Description: Chip&Dip; ComponentLink1URL: https://www.chipdip.ru/product0/9000079449
footprint 0805 Resistor
pins: 1, 2

## Res 39k (0805)
designator R?, comment 39k
0.125W 0805 39k, 1%; Part Number: RC0805FR-0739KL; Manufacturer: Taiwan; Type: Resistor; ComponentLink1Description: Chip&Dip; ComponentLink1URL: https://www.chipdip.ru/product0/9000079528
footprint 0805 Resistor
pins: 1, 2

## Res 39k (C2-23-2)
designator R?, comment 39k
2W C2-23-2 39k, 5%; Part Number: MO-2W-39KJ; Manufacturer: Taiwan; Type: Resistor; ComponentLink1Description: Chip&Dip; ComponentLink1URL: https://www.chipdip.ru/product0/28914
footprint C2-23-2
pins: 1, 2

## Res 43k (0603)
designator R?, comment 43k
0.1W 0603 43k, 1%; Part Number: RC0603FR-0743KL; Manufacturer: Taiwan; Type: Resistor; ComponentLink1Description: Chip&Dip; ComponentLink1URL: https://www.chipdip.ru/product0/9000079751
footprint 0603 Resistor
pins: 1, 2

## Res 43R (0805)
designator R?, comment 43R
0.125W 0805 43R, 1%; Part Number: RC0805FR-0743RL; Manufacturer: Taiwan; Type: Resistor; ComponentLink1Description: Chip&Dip; ComponentLink1URL: https://www.chipdip.ru/product0/9000079453
footprint 0805 Resistor
pins: 1, 2

## Res 47R (0805)
designator R?, comment 47R
0.125W 0805 47R, 1%; Part Number: RC0805FR-0747RL; Manufacturer: Taiwan; ComponentLink1Description: Chip&Dip; ComponentLink1URL: https://www.chipdip.ru/product0/9000079454; Type: Resistor
footprint 0805 Resistor
pins: 1, 2

## Res 51k (0603)
designator R?, comment 51k
0.1W 0603 51k, 1%; Part Number: RC0603FR-0751KL; Manufacturer: Taiwan; Type: Resistor; ComponentLink1Description: Chip&Dip; ComponentLink1URL: https://www.chipdip.ru/product0/9000079753
footprint 0603 Resistor
pins: 1, 2

## Res 62R (0603)
designator R?, comment 62R
0.1W 0603 62R, 1%; Part Number: RC0603FR-0762RL; Manufacturer: Taiwan; Type: Resistor; ComponentLink1Description: Chip&Dip; ComponentLink1URL: https://www.chipdip.ru/product0/9000079611
footprint 0603 Resistor
pins: 1, 2

## Res 62R (0805)
designator R?, comment 62R
0.125W 0805 62R, 1%; Part Number: RC0805FR-0762RL; Manufacturer: Taiwan; Type: Resistor; ComponentLink1Description: Chip&Dip; ComponentLink1URL: https://www.chipdip.ru/product0/9000079457
footprint 0805 Resistor
pins: 1, 2

## Res 75k (0603)
designator R?, comment 75k
0.1W 0603 75k, 1%; Part Number: RC0603FR-0775KL; Manufacturer: Taiwan; Type: Resistor; ComponentLink1Description: Chip&Dip; ComponentLink1URL: https://www.chipdip.ru/product0/9000079757
footprint 0603 Resistor
pins: 1, 2

## Res 75R (0603)
designator R?, comment 75R
0.1W 0603 75R, 1%; Part Number: RC0603FR-0775RL; Manufacturer: Taiwan; Type: Resistor; ComponentLink1Description: Chip&Dip; ComponentLink1URL: https://www.chipdip.ru/product0/9000079613
footprint 0603 Resistor
pins: 1, 2

## Res 75R (0805)
designator R?, comment 75R
0.125W 0805 75R, 1%; Part Number: RC0805FR-0775RL; Manufacturer: Taiwan; Type: Resistor; ComponentLink1Description: Chip&Dip; ComponentLink1URL: https://www.chipdip.ru/product0/9000079459
footprint 0805 Resistor
pins: 1, 2

## Res 91k (0603)
designator R?, comment 91k
0.1W 0603 91k, 1%; Part Number: RC0603FR-0791KL; Manufacturer: Taiwan; Type: Resistor; ComponentLink1Description: Chip&Dip; ComponentLink1URL: https://www.chipdip.ru/product0/9000079759
footprint 0603 Resistor
pins: 1, 2

## Res 100k (0805)
designator R?, comment Res 100k
0.125W 0805 100k, 1%; Part Number: RC0805FR-07100KL; Manufacturer: Taiwan; Type: Resistor; ComponentLink1Description: Chip&Dip; ComponentLink1URL: https://www.chipdip.ru/product0/9000079538
footprint 0805 Resistor
pins: 1, 2

## Res 100R (0805)
designator R?, comment 100R
0.125W 0805 100R, 1%; Part Number: RC0805FR-07100RL; Manufacturer: Taiwan; Type: Resistor; ComponentLink1Description: Chip&Dip; ComponentLink1URL: https://www.chipdip.ru/product0/9000079462
footprint 0805 Resistor
pins: 1, 2

## Res 120k (0603)
designator R?, comment 120k
0.1W 0603 120k, 1%; Part Number: RC0603FR-07120KL; Manufacturer: Taiwan; Type: Resistor; ComponentLink1Description: Chip&Dip; ComponentLink1URL: https://www.chipdip.ru/product0/9000079762
footprint 0603 Resistor
pins: 1, 2

## Res 120R (0805)
designator R?, comment 120R
0.125W 0805 120R, 1%; Part Number: RC0805FR-07120RL; Manufacturer: Taiwan; Type: Resistor; ComponentLink1Description: Chip&Dip; ComponentLink1URL: https://www.chipdip.ru/product0/9000079464
footprint 0805 Resistor
pins: 1, 2

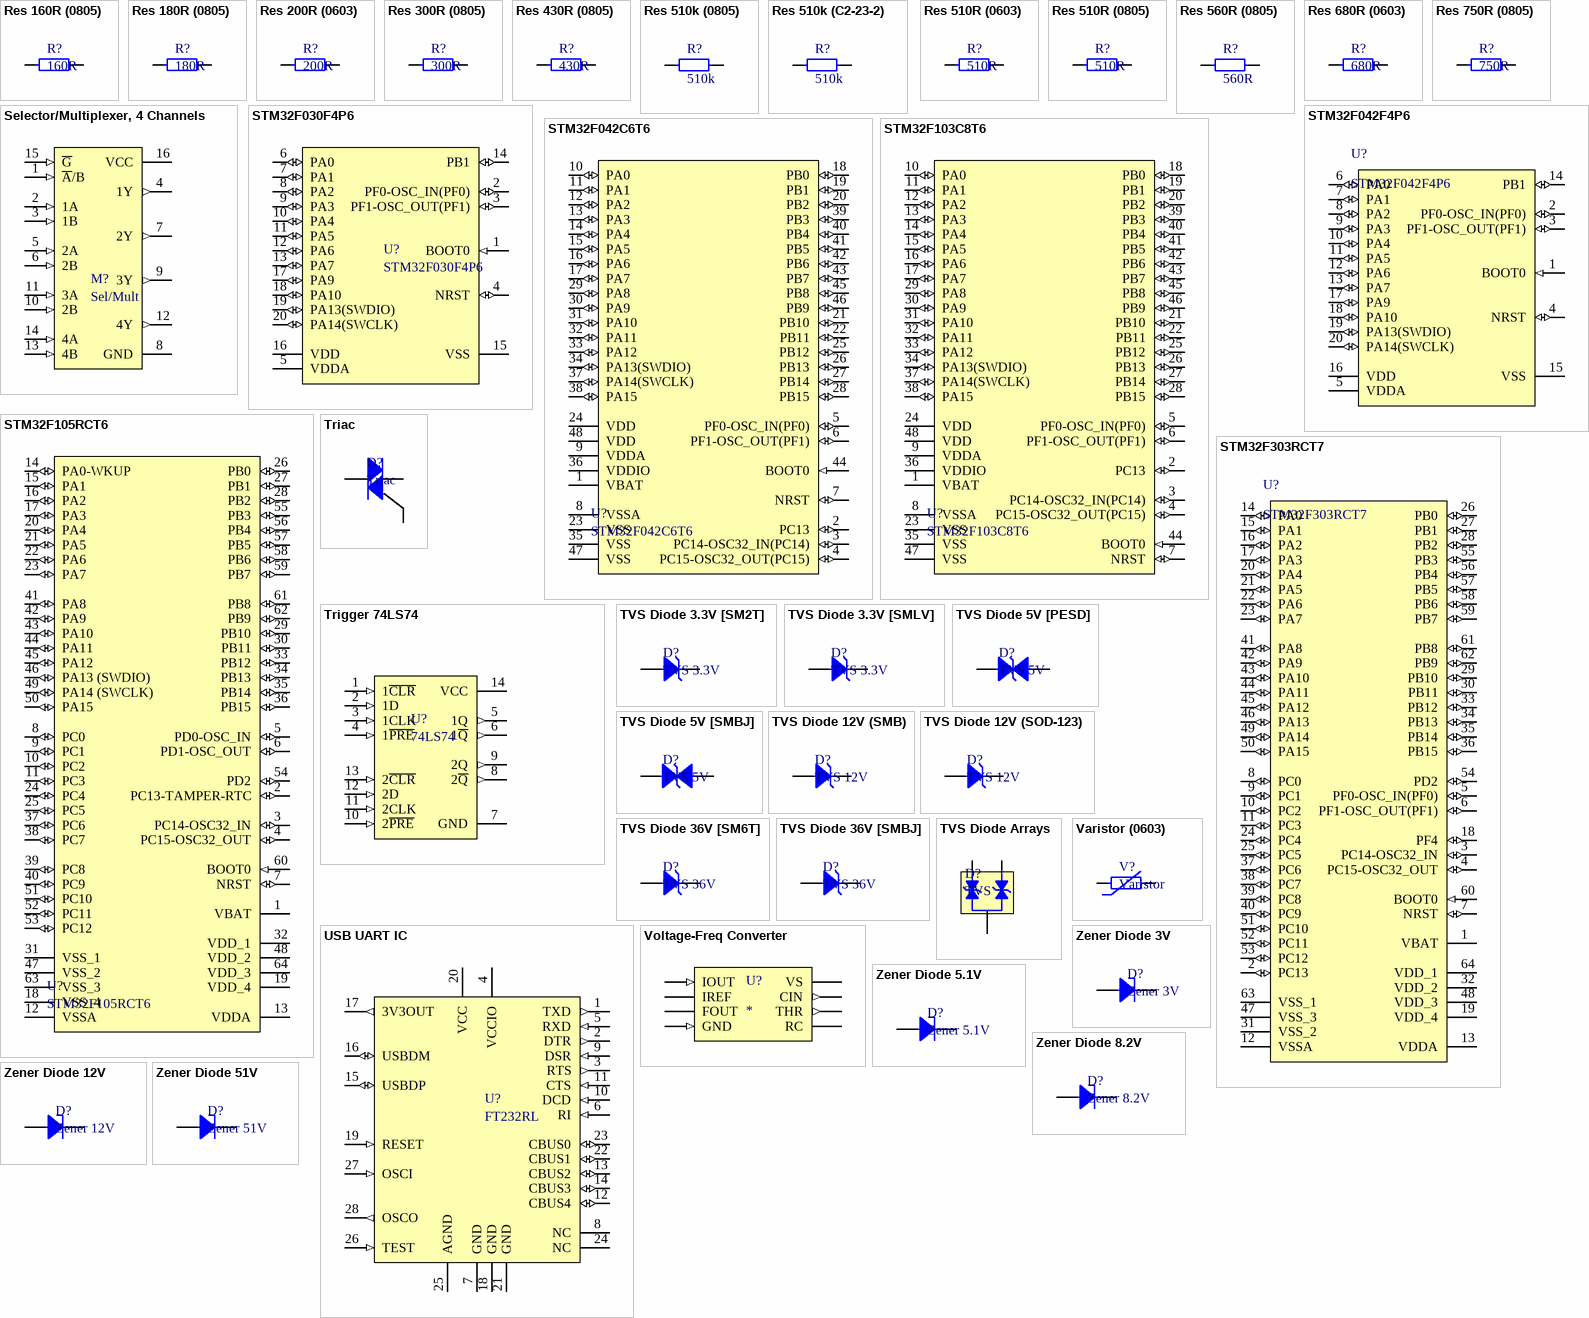
[diagram p6: symbols Res 160R (0805) to Zener Diode 51V]

## Res 160R (0805)
designator R?, comment 160R
0.125W 0805 160R, 1%; Part Number: RC0805FR-07160RL; Manufacturer: Taiwan; Type: Resistor; ComponentLink1Description: Chip&Dip; ComponentLink1URL: https://www.chipdip.ru/product0/9000079467
footprint 0805 Resistor
pins: 1, 2

## Res 180R (0805)
designator R?, comment 180R
0.125W 0805 180R, 1%; Part Number: RC0805FR-07180RL; Manufacturer: Taiwan; Type: Resistor; ComponentLink1Description: Chip&Dip; ComponentLink1URL: https://www.chipdip.ru/product0/9000079468
footprint 0805 Resistor
pins: 1, 2

## Res 200R (0603)
designator R?, comment 200R
0.1W 0603 200R, 1%; Part Number: RC0603FR-07200RL; Manufacturer: Taiwan; Type: Resistor; ComponentLink1Description: Chip&Dip; ComponentLink1URL: https://www.chipdip.ru/product0/9000079623
footprint 0603 Resistor
pins: 1, 2